# Altium footprint library FootprintsPersonals.PcbLib: 152 footprints (part 6 of 10)
Each footprint in its own frame and in the unit in brackets; x right, y up, seen from the top. Pads: shape width x height; smd on the part's side, far side on the other; paste and mask are expansions set on the pad; w line width, h text height; cw(c..) or ccw(c..) is an arc to the next point about the centre after c.
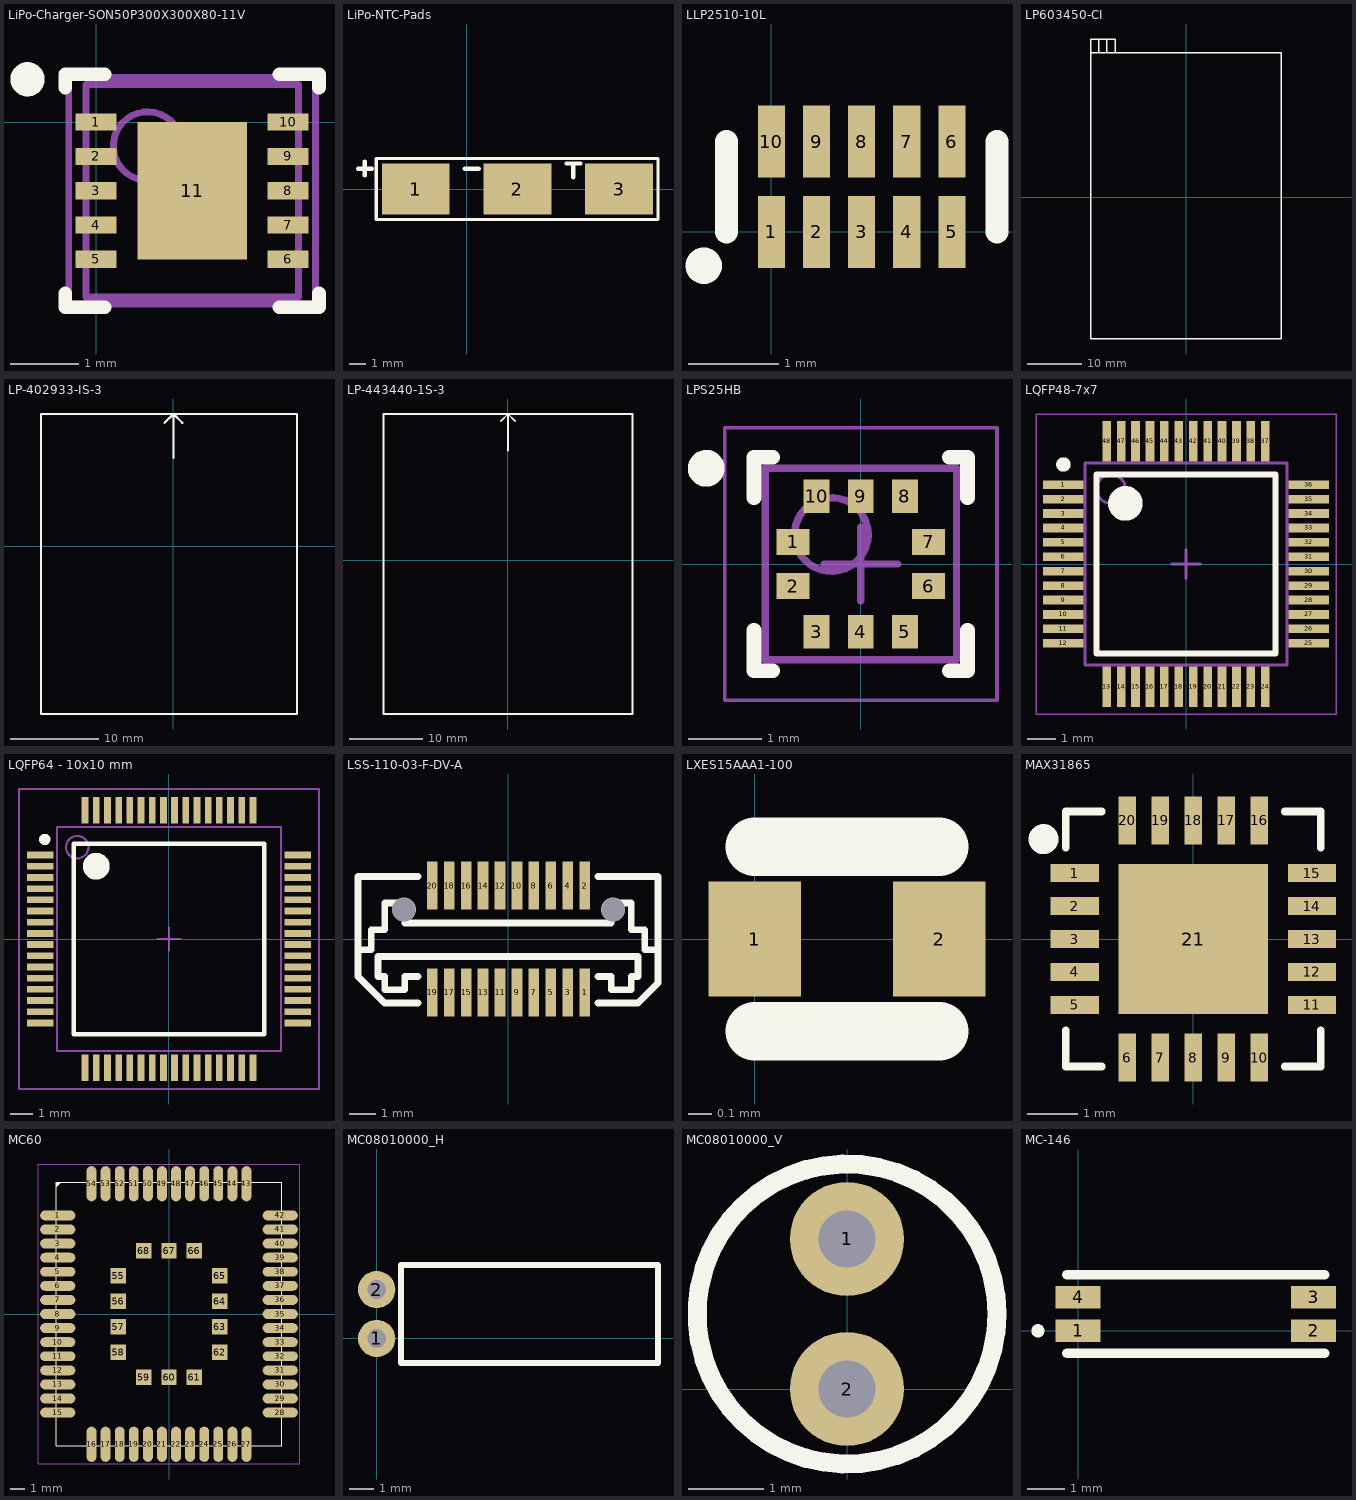
[diagram p5: the footprints below, top view; thin cyan lines are the x and y axes]

## LiPo-Charger-SON50P300X300X80-11V [mm] "SON, 10-Leads, Body 3x3 mm, Pitch 0.5mm, NSC Recommended"
height 0.8
pads (11):
  rect 0.6x0.25 smd paste-0.125 mask+0.051: 1(0,0) 2(0,-0.5) 3(0,-1) 4(0,-1.5) 5(0,-2) 6(2.8,-2) 7(2.8,-1.5) 8(2.8,-1) 9(2.8,-0.5) 10(2.8,0)
  rect 1.6x2 smd paste-0.05 mask+0.051: 11(1.4,-1)
Top Overlay:
  circle w0.25: c-1,0.625 r0.125
  lines w0.2: -0.45,-2.5 -0.45,-2.7 0.125,-2.7 ; -0.45,0.5 -0.45,0.7 0.125,0.7 ; 2.675,-2.7 3.25,-2.7 3.25,-2.5 ; 2.675,0.7 3.25,0.7 3.25,0.5
Top Paste:
  rectangle: -0.3,-0.125 0.3,0.125
  rectangle: -0.3,-0.625 0.3,-0.375
  rectangle: -0.3,-1.125 0.3,-0.875
  rectangle: -0.3,-1.625 0.3,-1.375
  rectangle: -0.3,-2.125 0.3,-1.875
  region: 3.1,0.125 2.5,0.125 2.5,-0.125 3.1,-0.125
  region: 3.1,-0.375 2.5,-0.375 2.5,-0.625 3.1,-0.625
  region: 3.1,-0.875 2.5,-0.875 2.5,-1.125 3.1,-1.125
  region: 3.1,-1.375 2.5,-1.375 2.5,-1.625 3.1,-1.625
  region: 3.1,-1.875 2.5,-1.875 2.5,-2.125 3.1,-2.125
Mechanical 13:
  circle w0.1: c0.75,-0.35 r0.5
  lines w0.1: -0.15,-2.55 -0.15,0.55 2.95,0.55 2.95,-2.55 -0.15,-2.55
Mechanical 15:
  lines w0.1: 0.9,-1 1.9,-1 ; 1.4,-1.5 1.4,-0.5 ; -0.4,-2.65 -0.4,0.65 3.2,0.65 3.2,-2.65 -0.4,-2.65
3D body: height 0.8, standoff 0, extent -0.15,-2.55 2.95,0.55

## LiPo-NTC-Pads [mm]
pads (3):
  rect 4x3 smd: 1(-3,0) 2(3,0) 3(9,0)
Top Overlay:
  lines w0.2: -5.325,-1.8 11.3,-1.8 11.3,1.8 -5.325,1.8 -5.325,-1.8
  lines w0.254: -6.413,1.2 -5.588,1.2 ; -6.013,0.8 -6.013,1.625 ; -0.113,1.2 0.712,1.2 ; 5.9,1.5 6.725,1.5 ; 6.3,0.7 6.3,1.5
3D body: height 4.5, standoff 0, extent -10.1,-52.4 23.9,-2.4

## LLP2510-10L [mm]
pads (10):
  rect 0.3x0.8 smd: 1(0,0) 2(0.5,0) 3(1,0) 4(1.5,0) 5(2,0) 6(2,1) 7(1.5,1) 8(1,1) 9(0.5,1) 10(0,1)
Top Overlay:
  circle w0.254: c-0.75,-0.375 r0.075
  lines w0.254: -0.5,0 -0.5,1 ; 2.5,0 2.5,1

## LP603450-CI [mm] "Pack bateria Medica de 1050mAh"
height 6.2
Top Overlay:
  lines w0.254: -16,26.5 -16,29 ; -14.5,26.5 -14.5,29 ; -13,26.5 -13,29 -17.5,29 -17.5,26.5 ; -17.5,26.5 17.5,26.5 17.5,21 17.5,-26 -17.5,-26 -17.5,26.5
3D body: height 9.1, standoff 3.3, extent -17.5,-26 17.5,26.5

## LP-402933-IS-3 [mm]
Top Overlay:
  lines w0.254: -1,14 0,15 ; 0,10 0,15 ; 1,14 0,15 ; -15,-19 14,-19 14,15 -15,15 -15,-19

## LP-443440-1S-3 [mm]
Top Overlay:
  lines w0.254: -1,19 0,20 ; 0,15 0,20 ; 1,19 0,20 ; 0,20 0,20 ; -17,-21 -17,20 17,20 17,-21 -17,-21

## LPS25HB [mm] "QFN, 10-Leads, Body 2,50x2,50mm, Pitch 0,60mm, IPC Medium Density"
height 1
pads (10):
  rect 0.45x0.35 smd mask+0.075: 1(-0.92,0.3) 2(-0.92,-0.3) 6(0.92,-0.3) 7(0.92,0.3)
  rect 0.35x0.45 smd mask+0.075: 3(-0.6,-0.92) 4(0,-0.92) 5(0.6,-0.92) 8(0.6,0.92) 9(0,0.92) 10(-0.6,0.92)
Top Overlay:
  circle w0.25: c-2.1,1.3 r0.125
  lines w0.2: -1.45,-0.9 -1.45,-1.45 -1.2,-1.45 ; -1.45,0.9 -1.45,1.45 -1.2,1.45 ; 1.2,-1.45 1.45,-1.45 1.45,-0.9 ; 1.2,1.45 1.45,1.45 1.45,0.9
Mechanical 13:
  circle w0.1: c-0.4,0.4 r0.5
  lines w0.1: -1.3,-1.3 -1.3,1.3 1.3,1.3 1.3,-1.3 -1.3,-1.3
Mechanical 15:
  lines w0.05: -1.85,-1.85 -1.85,1.85 1.85,1.85 1.85,-1.85 -1.85,-1.85
  lines w0.1: -0.5,0 0.5,0 ; 0,-0.5 0,0.5
3D body "LPS25HB.step": height 1, standoff 0, extent -1.301,-1.301 1.301,1.301

## LQFP48-7x7 [mm] "TSQFP, 48-Leads, Body 7,00x7,00mm, Pitch 0,50mm, IPC Medium Density"
height 1.6
pads (48):
  rect 1.4x0.3 smd: 1(-4.25,2.75) 2(-4.25,2.25) 3(-4.25,1.75) 4(-4.25,1.25) 5(-4.25,0.75) 6(-4.25,0.25) 7(-4.25,-0.25) 8(-4.25,-0.75) 9(-4.25,-1.25) 10(-4.25,-1.75) 11(-4.25,-2.25) 12(-4.25,-2.75) 25(4.25,-2.75) 26(4.25,-2.25) 27(4.25,-1.75) 28(4.25,-1.25) 29(4.25,-0.75) 30(4.25,-0.25) 31(4.25,0.25) 32(4.25,0.75) 33(4.25,1.25) 34(4.25,1.75) 35(4.25,2.25) 36(4.25,2.75)
  rect 0.3x1.4 smd: 13(-2.75,-4.25) 14(-2.25,-4.25) 15(-1.75,-4.25) 16(-1.25,-4.25) 17(-0.75,-4.25) 18(-0.25,-4.25) 19(0.25,-4.25) 20(0.75,-4.25) 21(1.25,-4.25) 22(1.75,-4.25) 23(2.25,-4.25) 24(2.75,-4.25) 37(2.75,4.25) 38(2.25,4.25) 39(1.75,4.25) 40(1.25,4.25) 41(0.75,4.25) 42(0.25,4.25) 43(-0.25,4.25) 44(-0.75,4.25) 45(-1.25,4.25) 46(-1.75,4.25) 47(-2.25,4.25) 48(-2.75,4.25)
Top Overlay:
  circle w0.6: c-2.1,2.1 r0.3
  circle w0.25: c-4.25,3.45 r0.125
  lines w0.2: -3.1,-3.1 3.1,-3.1 3.1,3.1 -3.1,3.1 -3.1,-3.1
Mechanical 13:
  circle w0.1: c-2.6,2.6 r0.5
  lines w0.1: -3.5,-3.5 3.5,-3.5 3.5,3.5 -3.5,3.5 -3.5,-3.5
Mechanical 15:
  lines w0.05: -5.2,-5.2 5.2,-5.2 5.2,5.2 -5.2,5.2 -5.2,-5.2
  lines w0.1: -0.5,0 0.5,0 ; 0,-0.5 0,0.5
3D body "LQFP48-7x7.step": height 1.6, standoff 0, extent -4.5,-4.5 4.5,4.5

## LQFP64 - 10x10 mm [mm] "Shrink QFP, 64-Leads, Body 10x10mm, Pitch 0.5mm, IPC Medium Density"
height 1.6
pads (64):
  rect 1.2x0.3 smd: 1(-5.75,3.75) 2(-5.75,3.25) 3(-5.75,2.75) 4(-5.75,2.25) 5(-5.75,1.75) 6(-5.75,1.25) 7(-5.75,0.75) 8(-5.75,0.25) 9(-5.75,-0.25) 10(-5.75,-0.75) 11(-5.75,-1.25) 12(-5.75,-1.75) 13(-5.75,-2.25) 14(-5.75,-2.75) 15(-5.75,-3.25) 16(-5.75,-3.75) 33(5.75,-3.75) 34(5.75,-3.25) 35(5.75,-2.75) 36(5.75,-2.25) 37(5.75,-1.75) 38(5.75,-1.25) 39(5.75,-0.75) 40(5.75,-0.25) 41(5.75,0.25) 42(5.75,0.75) 43(5.75,1.25) 44(5.75,1.75) 45(5.75,2.25) 46(5.75,2.75) 47(5.75,3.25) 48(5.75,3.75)
  rect 0.3x1.2 smd: 17(-3.75,-5.75) 18(-3.25,-5.75) 19(-2.75,-5.75) 20(-2.25,-5.75) 21(-1.75,-5.75) 22(-1.25,-5.75) 23(-0.75,-5.75) 24(-0.25,-5.75) 25(0.25,-5.75) 26(0.75,-5.75) 27(1.25,-5.75) 28(1.75,-5.75) 29(2.25,-5.75) 30(2.75,-5.75) 31(3.25,-5.75) 32(3.75,-5.75) 49(3.75,5.75) 50(3.25,5.75) 51(2.75,5.75) 52(2.25,5.75) 53(1.75,5.75) 54(1.25,5.75) 55(0.75,5.75) 56(0.25,5.75) 57(-0.25,5.75) 58(-0.75,5.75) 59(-1.25,5.75) 60(-1.75,5.75) 61(-2.25,5.75) 62(-2.75,5.75) 63(-3.25,5.75) 64(-3.75,5.75)
Top Overlay:
  circle w0.25: c-5.55,4.45 r0.125
  circle w0.6: c-3.25,3.25 r0.3
  lines w0.2: -4.25,-4.25 -4.25,4.25 4.25,4.25 4.25,-4.25 -4.25,-4.25
Mechanical 13:
  circle w0.1: c-4.1,4.1 r0.5
  lines w0.1: -5,-5 -5,5 5,5 5,-5 -5,-5
Mechanical 15:
  lines w0.1: -0.5,0 0.5,0 ; 0,-0.5 0,0.5 ; -6.7,-6.7 -6.7,6.7 6.7,6.7 6.7,-6.7 -6.7,-6.7
3D body: height 1.6, standoff 0, extent -5,-5 5,5

## LSS-110-03-F-DV-A [mm] "LSS-110-03-F-DV-A"
height 5.3
pads (20):
  rect 0.4x1.8 smd: 1(2.857,-2.005) 2(2.857,2.005) 3(2.222,-2.005) 4(2.222,2.005) 5(1.587,-2.005) 6(1.587,2.005) 7(0.953,-2.005) 8(0.953,2.005) 9(0.318,-2.005) 10(0.318,2.005) 11(-0.318,-2.005) 12(-0.318,2.005) 13(-0.953,-2.005) 14(-0.953,2.005) 15(-1.587,-2.005) 16(-1.587,2.005) 17(-2.222,-2.005) 18(-2.222,2.005) 19(-2.857,-2.005) 20(-2.857,2.005)
via 3.925,1.1 diameter 0.9 hole 0.89
via -3.925,1.1 diameter 0.9 hole 0.89
Top Overlay:
  lines w0.254: -5.643,-0.405 -5.143,-0.405 -5.143,0.345 -4.643,0.345 -4.643,1.345 -3.893,1.345 -3.893,0.595 3.857,0.595 3.857,1.345 4.607,1.345 4.607,0.345 5.107,0.345 5.107,-0.405 5.607,-0.405 ; -3.393,-2.405 -4.643,-2.405 -5.643,-1.405 -5.643,2.345 -3.393,2.345 ; -3.393,-1.405 -3.893,-1.405 -3.893,-1.905 -4.643,-1.905 -4.643,-1.405 -4.893,-1.405 -4.893,-0.655 4.857,-0.655 4.857,-1.405 4.607,-1.405 4.607,-1.905 3.857,-1.905 3.857,-1.405 3.357,-1.405 ; 3.357,-2.405 4.858,-2.405 5.607,-1.655 5.607,1.845 5.607,2.345 3.357,2.345
3D body: height 5.49, standoff 2.59, extent -5.7,-1.405 5.6,2.295
3D body: height 2.59, standoff 0, extent -5.7,-2.405 5.6,2.295

## LXES15AAA1-100 [mm]
pads (2):
  rect 0.4x0.5 smd: 1(0,0) 2(0.8,0)
Top Overlay:
  lines w0.254: 0,-0.4 0.8,-0.4 ; 0,0.4 0.8,0.4

## MAX31865 [mil]
pads (21):
  rect 38x14 smd: 1(-93.5,52) 2(-93.5,26) 3(-93.5,0) 4(-93.5,-26) 5(-93.5,-52) 11(93.5,-52) 12(93.5,-26) 13(93.5,0) 14(93.5,26) 15(93.5,52)
  rect 14x38 smd: 6(-52,-93.5) 7(-26,-93.5) 8(0,-93.5) 9(26,-93.5) 10(52,-93.5) 16(52,93.5) 17(26,93.5) 18(0,93.5) 19(-26,93.5) 20(-52,93.5)
  rect 118.11x118.11 smd: 21(0,0)
Top Overlay:
  circle w11.81: c-118.11,78.74 r5.91
  lines w6: -100.5,-72.1 -100.5,-100.5 -72.1,-100.5 ; -100.5,72.1 -100.5,100.5 -72.1,100.5 ; 72.1,-100.5 100.5,-100.5 100.5,-72.1 ; 72.1,100.5 100.5,100.5 100.5,72.1

## MC60 [mm]
pads (68):
  oval 2.5x0.7 smd: 1(-7.9,7) 2(-7.9,6) 3(-7.9,5) 4(-7.9,4) 5(-7.9,3) 6(-7.9,2) 7(-7.9,1) 8(-7.9,0) 9(-7.9,-1) 10(-7.9,-2) 11(-7.9,-3) 12(-7.9,-4) 13(-7.9,-5) 14(-7.9,-6) 15(-7.9,-7) 28(7.9,-7) 29(7.9,-6) 30(7.9,-5) 31(7.9,-4) 32(7.9,-3) 33(7.9,-2) 34(7.9,-1) 35(7.9,0) 36(7.9,1) 37(7.9,2) 38(7.9,3) 39(7.9,4) 40(7.9,5) 41(7.9,6) 42(7.9,7)
  oval 0.7x2.5 smd: 16(-5.5,-9.25) 17(-4.5,-9.25) 18(-3.5,-9.25) 19(-2.5,-9.25) 20(-1.5,-9.25) 21(-0.5,-9.25) 22(0.5,-9.25) 23(1.5,-9.25) 24(2.5,-9.25) 25(3.5,-9.25) 26(4.5,-9.25) 27(5.5,-9.25) 43(5.5,9.25) 44(4.5,9.25) 45(3.5,9.25) 46(2.5,9.25) 47(1.5,9.25) 48(0.5,9.25) 49(-0.5,9.25) 50(-1.5,9.25) 51(-2.5,9.25) 52(-3.5,9.25) 53(-4.5,9.25) 54(-5.5,9.25)
  rect 1.1x1.1 smd: 55(-3.6,2.7) 56(-3.6,0.9) 57(-3.6,-0.9) 58(-3.6,-2.7) 59(-1.8,-4.5) 60(0,-4.5) 61(1.8,-4.5) 62(3.6,-2.7) 63(3.6,-0.9) 64(3.6,0.9) 65(3.6,2.7) 66(1.8,4.5) 67(0,4.5) 68(-1.8,4.5)
Top Overlay:
  lines w0.01: -8,9.05 -7.7,9.35 ; -8,9.15 -7.8,9.35 ; -8,9.25 -7.9,9.35 ; -8,-9.35 8,-9.35 8,9.35 -8,9.35 -8,-9.35
Mechanical 1:
  lines w0.01: -9.3,-10.65 -9.3,10.65 9.3,10.65 9.3,-10.65 -9.3,-10.65

## MC08010000_H [mil] "NEON LAMP"
height 157.48
pads (2):
  round 60 hole 30: 1(0,0) 2(0,78.74)
Top Overlay:
  lines w10: 39.37,-39.37 452.76,-39.37 452.76,118.11 39.37,118.11 39.37,-39.37
3D body: height 156.86, standoff 0, extent 39.37,-39.21 452.76,117.96

## MC08010000_V [mil] "NEON LAMP"
height 413.39
pads (2):
  round 60 hole 30: 1(0,78.74) 2(0,0)
Top Overlay:
  circle w10: c0,39.37 r78.74
3D body: height 452.76, standoff 39.37, extent -78.12,-39.21 78.74,117.95

## MC-146 [mm]
pads (4):
  rect 1.2x0.6 smd: 1(0,0) 2(6.3,0) 3(6.3,0.9) 4(0,0.9)
Top Overlay:
  circle w0.254: c-1.075,0 r0.05
  lines w0.254: -0.3,-0.6 0,-0.6 6.6,-0.6 ; -0.3,1.5 6.6,1.5